# Altium schematic symbol library R E24 0603 Yageo RC Series.SchLib: 174 symbols (part 1 of 3)
Pins are listed as number, name and electrical type; pins without a type are passive.

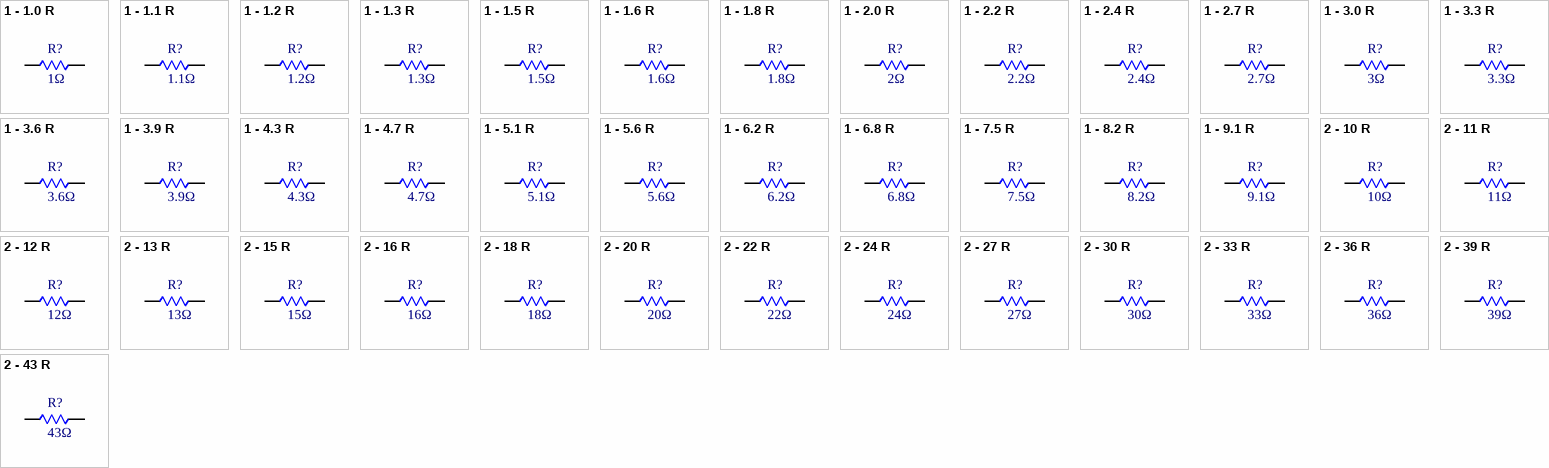
[diagram p0: symbols 1 - 1.0 R to 2 - 43 R]

## 1 - 1.0 R
designator R?, comment 1Ω
RES SMD 1 OHM 5% 1/10W 0603; MFG PN: RC0603JR-071RL; MFG: Yageo; Power: 0.1W; Temp Coeff: ±200ppm/°C; Op Temp: -55°C ~ 155°C; Current (max): 316 mA; Voltage (max): 316 mV; Resistance: 1 Ohms; Digi-Key PN: 311-1.0GRCT-ND; Height: 0.55mm; Package: 0603; Composition: Thick Film; Tolerance: 5%; Series: RC; Mounting Type: Surface Mount; ComponentLink2Description: Datasheet; ComponentLink2URL: https://www.yageo.com/upload/media/product/productsearch/datasheet/rchip/PYu-RC_Group_51_RoHS_L_11.pdf
footprint 0603 - R (from Yageo)
pins: 1, 2

## 1 - 1.1 R
designator R?, comment 1.1Ω
RES SMD 1.1 OHM 5% 1/10W 0603; MFG PN: RC0603JR-071R1L; MFG: Yageo; Power: 0.1W; Temp Coeff: ±100ppm/°C; Op Temp: -55°C ~ 155°C; Current (max): 302 mA; Voltage (max): 332 mV; Resistance: 1.1 Ohms; Digi-Key PN: 311-1.1GRCT-ND; Height: 0.55mm; Package: 0603; Composition: Thick Film; Tolerance: 5%; Series: RC; Mounting Type: Surface Mount; ComponentLink2Description: Datasheet; ComponentLink2URL: https://www.yageo.com/upload/media/product/productsearch/datasheet/rchip/PYu-RC_Group_51_RoHS_L_11.pdf
footprint 0603 - R (from Yageo)
pins: 1, 2

## 1 - 1.2 R
designator R?, comment 1.2Ω
RES SMD 1.2 OHM 5% 1/10W 0603; MFG PN: RC0603JR-071R2L; MFG: Yageo; Power: 0.1W; Temp Coeff: ±100ppm/°C; Op Temp: -55°C ~ 155°C; Current (max): 289 mA; Voltage (max): 346 mV; Resistance: 1.2 Ohms; Digi-Key PN: 311-1.2GRCT-ND; Height: 0.55mm; Package: 0603; Composition: Thick Film; Tolerance: 5%; Series: RC; Mounting Type: Surface Mount; ComponentLink2Description: Datasheet; ComponentLink2URL: https://www.yageo.com/upload/media/product/productsearch/datasheet/rchip/PYu-RC_Group_51_RoHS_L_11.pdf
footprint 0603 - R (from Yageo)
pins: 1, 2

## 1 - 1.3 R
designator R?, comment 1.3Ω
RES SMD 1.3 OHM 5% 1/10W 0603; MFG PN: RC0603JR-071R3L; MFG: Yageo; Power: 0.1W; Temp Coeff: ±100ppm/°C; Op Temp: -55°C ~ 155°C; Current (max): 277 mA; Voltage (max): 361 mV; Resistance: 1.3 Ohms; Digi-Key PN: 311-1.3GRCT-ND; Height: 0.55mm; Package: 0603; Composition: Thick Film; Tolerance: 5%; Series: RC; Mounting Type: Surface Mount; ComponentLink2Description: Datasheet; ComponentLink2URL: https://www.yageo.com/upload/media/product/productsearch/datasheet/rchip/PYu-RC_Group_51_RoHS_L_11.pdf
footprint 0603 - R (from Yageo)
pins: 1, 2

## 1 - 1.5 R
designator R?, comment 1.5Ω
RES SMD 1.5 OHM 5% 1/10W 0603; MFG PN: RC0603JR-071R5L; MFG: Yageo; Power: 0.1W; Temp Coeff: ±100ppm/°C; Op Temp: -55°C ~ 155°C; Current (max): 258 mA; Voltage (max): 387 mV; Resistance: 1.5 Ohms; Digi-Key PN: 311-1.5GRCT-ND; Height: 0.55mm; Package: 0603; Composition: Thick Film; Tolerance: 5%; Series: RC; Mounting Type: Surface Mount; ComponentLink2Description: Datasheet; ComponentLink2URL: https://www.yageo.com/upload/media/product/productsearch/datasheet/rchip/PYu-RC_Group_51_RoHS_L_11.pdf
footprint 0603 - R (from Yageo)
pins: 1, 2

## 1 - 1.6 R
designator R?, comment 1.6Ω
RES SMD 1.6 OHM 5% 1/10W 0603; MFG PN: RC0603JR-071R6L; MFG: Yageo; Power: 0.1W; Temp Coeff: ±100ppm/°C; Op Temp: -55°C ~ 155°C; Current (max): 250 mA; Voltage (max): 400 mV; Resistance: 1.6 Ohms; Digi-Key PN: 311-1.6GRCT-ND; Height: 0.55mm; Package: 0603; Composition: Thick Film; Tolerance: 5%; Series: RC; Mounting Type: Surface Mount; ComponentLink2Description: Datasheet; ComponentLink2URL: https://www.yageo.com/upload/media/product/productsearch/datasheet/rchip/PYu-RC_Group_51_RoHS_L_11.pdf
footprint 0603 - R (from Yageo)
pins: 1, 2

## 1 - 1.8 R
designator R?, comment 1.8Ω
RES SMD 1.8 OHM 5% 1/10W 0603; MFG PN: RC0603JR-071R8L; MFG: Yageo; Power: 0.1W; Temp Coeff: ±100ppm/°C; Op Temp: -55°C ~ 155°C; Current (max): 236 mA; Voltage (max): 424 mV; Resistance: 1.8 Ohms; Digi-Key PN: 311-1.8GRCT-ND; Height: 0.55mm; Package: 0603; Composition: Thick Film; Tolerance: 5%; Series: RC; Mounting Type: Surface Mount; ComponentLink2Description: Datasheet; ComponentLink2URL: https://www.yageo.com/upload/media/product/productsearch/datasheet/rchip/PYu-RC_Group_51_RoHS_L_11.pdf
footprint 0603 - R (from Yageo)
pins: 1, 2

## 1 - 2.0 R
designator R?, comment 2Ω
RES SMD 2 OHM 5% 1/10W 0603; MFG PN: RC0603JR-072RL; MFG: Yageo; Power: 0.1W; Temp Coeff: ±100ppm/°C; Op Temp: -55°C ~ 155°C; Current (max): 224 mA; Voltage (max): 447 mV; Resistance: 2 Ohms; Digi-Key PN: 13-RC0603JR-072RLCT-ND; Height: 0.55mm; Package: 0603; Composition: Thick Film; Tolerance: 5%; Series: RC; Mounting Type: Surface Mount; ComponentLink2Description: Datasheet; ComponentLink2URL: https://www.yageo.com/upload/media/product/productsearch/datasheet/rchip/PYu-RC_Group_51_RoHS_L_11.pdf
footprint 0603 - R (from Yageo)
pins: 1, 2

## 1 - 2.2 R
designator R?, comment 2.2Ω
RES SMD 2.2 OHM 5% 1/10W 0603; MFG PN: RC0603JR-072R2L; MFG: Yageo; Power: 0.1W; Temp Coeff: ±100ppm/°C; Op Temp: -55°C ~ 155°C; Current (max): 213 mA; Voltage (max): 469 mV; Resistance: 2.2 Ohms; Digi-Key PN: 311-2.2GRCT-ND; Height: 0.55mm; Package: 0603; Composition: Thick Film; Tolerance: 5%; Series: RC; Mounting Type: Surface Mount; ComponentLink2Description: Datasheet; ComponentLink2URL: https://www.yageo.com/upload/media/product/productsearch/datasheet/rchip/PYu-RC_Group_51_RoHS_L_11.pdf
footprint 0603 - R (from Yageo)
pins: 1, 2

## 1 - 2.4 R
designator R?, comment 2.4Ω
RES SMD 2.4 OHM 5% 1/10W 0603; MFG PN: RC0603JR-072R4L; MFG: Yageo; Power: 0.1W; Temp Coeff: ±200ppm/°C; Op Temp: -55°C ~ 155°C; Current (max): 204 mA; Voltage (max): 490 mV; Resistance: 2.4 Ohms; Digi-Key PN: 311-2.4GRCT-ND; Height: 0.55mm; Package: 0603; Composition: Thick Film; Tolerance: 5%; Series: RC; Mounting Type: Surface Mount; ComponentLink2Description: Datasheet; ComponentLink2URL: https://www.yageo.com/upload/media/product/productsearch/datasheet/rchip/PYu-RC_Group_51_RoHS_L_11.pdf
footprint 0603 - R (from Yageo)
pins: 1, 2

## 1 - 2.7 R
designator R?, comment 2.7Ω
RES SMD 2.7 OHM 5% 1/10W 0603; MFG PN: RC0603JR-072R7L; MFG: Yageo; Power: 0.1W; Temp Coeff: ±200ppm/°C; Op Temp: -55°C ~ 155°C; Current (max): 192 mA; Voltage (max): 520 mV; Resistance: 2.7 Ohms; Digi-Key PN: 311-2.7GRCT-ND; Height: 0.55mm; Package: 0603; Composition: Thick Film; Tolerance: 5%; Series: RC; Mounting Type: Surface Mount; ComponentLink2Description: Datasheet; ComponentLink2URL: https://www.yageo.com/upload/media/product/productsearch/datasheet/rchip/PYu-RC_Group_51_RoHS_L_11.pdf
footprint 0603 - R (from Yageo)
pins: 1, 2

## 1 - 3.0 R
designator R?, comment 3Ω
RES SMD 3 OHM 5% 1/10W 0603; MFG PN: RC0603JR-073RL; MFG: Yageo; Power: 0.1W; Temp Coeff: ±200ppm/°C; Op Temp: -55°C ~ 155°C; Current (max): 183 mA; Voltage (max): 548 mV; Resistance: 3 Ohms; Digi-Key PN: 311-3.0GRCT-ND; Height: 0.55mm; Package: 0603; Composition: Thick Film; Tolerance: 5%; Series: RC; Mounting Type: Surface Mount; ComponentLink2Description: Datasheet; ComponentLink2URL: https://www.yageo.com/upload/media/product/productsearch/datasheet/rchip/PYu-RC_Group_51_RoHS_L_11.pdf
footprint 0603 - R (from Yageo)
pins: 1, 2

## 1 - 3.3 R
designator R?, comment 3.3Ω
RES SMD 3.3 OHM 5% 1/10W 0603; MFG PN: RC0603JR-073R3L; MFG: Yageo; Power: 0.1W; Temp Coeff: ±100ppm/°C; Op Temp: -55°C ~ 155°C; Current (max): 174 mA; Voltage (max): 574 mV; Resistance: 3.3 Ohms; Digi-Key PN: 311-3.3GRCT-ND; Height: 0.55mm; Package: 0603; Composition: Thick Film; Tolerance: 5%; Series: RC; Mounting Type: Surface Mount; ComponentLink2Description: Datasheet; ComponentLink2URL: https://www.yageo.com/upload/media/product/productsearch/datasheet/rchip/PYu-RC_Group_51_RoHS_L_11.pdf
footprint 0603 - R (from Yageo)
pins: 1, 2

## 1 - 3.6 R
designator R?, comment 3.6Ω
RES SMD 3.6 OHM 5% 1/10W 0603; MFG PN: RC0603JR-073R6L; MFG: Yageo; Power: 0.1W; Temp Coeff: ±100ppm/°C; Op Temp: -55°C ~ 155°C; Current (max): 167 mA; Voltage (max): 600 mV; Resistance: 3.6 Ohms; Digi-Key PN: 311-3.6GRCT-ND; Height: 0.55mm; Package: 0603; Composition: Thick Film; Tolerance: 5%; Series: RC; Mounting Type: Surface Mount; ComponentLink2Description: Datasheet; ComponentLink2URL: https://www.yageo.com/upload/media/product/productsearch/datasheet/rchip/PYu-RC_Group_51_RoHS_L_11.pdf
footprint 0603 - R (from Yageo)
pins: 1, 2

## 1 - 3.9 R
designator R?, comment 3.9Ω
RES SMD 3.9 OHM 5% 1/10W 0603; MFG PN: RC0603JR-073R9L; MFG: Yageo; Power: 0.1W; Temp Coeff: ±100ppm/°C; Op Temp: -55°C ~ 155°C; Current (max): 160 mA; Voltage (max): 624 mV; Resistance: 3.9 Ohms; Digi-Key PN: 311-3.9GRCT-ND; Height: 0.55mm; Package: 0603; Composition: Thick Film; Tolerance: 5%; Series: RC; Mounting Type: Surface Mount; ComponentLink2Description: Datasheet; ComponentLink2URL: https://www.yageo.com/upload/media/product/productsearch/datasheet/rchip/PYu-RC_Group_51_RoHS_L_11.pdf
footprint 0603 - R (from Yageo)
pins: 1, 2

## 1 - 4.3 R
designator R?, comment 4.3Ω
RES SMD 4.3 OHM 5% 1/10W 0603; MFG PN: RC0603JR-074R3L; MFG: Yageo; Power: 0.1W; Temp Coeff: ±100ppm/°C; Op Temp: -55°C ~ 155°C; Current (max): 152 mA; Voltage (max): 656 mV; Resistance: 4.3 Ohms; Digi-Key PN: 311-4.3GRCT-ND; Height: 0.55mm; Package: 0603; Composition: Thick Film; Tolerance: 5%; Series: RC; Mounting Type: Surface Mount; ComponentLink2Description: Datasheet; ComponentLink2URL: https://www.yageo.com/upload/media/product/productsearch/datasheet/rchip/PYu-RC_Group_51_RoHS_L_11.pdf
footprint 0603 - R (from Yageo)
pins: 1, 2

## 1 - 4.7 R
designator R?, comment 4.7Ω
RES SMD 4.7 OHM 5% 1/10W 0603; MFG PN: RC0603JR-074R7L; MFG: Yageo; Power: 0.1W; Temp Coeff: ±100ppm/°C; Op Temp: -55°C ~ 155°C; Current (max): 146 mA; Voltage (max): 686 mV; Resistance: 4.7 Ohms; Digi-Key PN: 311-4.7GRCT-ND; Height: 0.55mm; Package: 0603; Composition: Thick Film; Tolerance: 5%; Series: RC; Mounting Type: Surface Mount; ComponentLink2Description: Datasheet; ComponentLink2URL: https://www.yageo.com/upload/media/product/productsearch/datasheet/rchip/PYu-RC_Group_51_RoHS_L_11.pdf
footprint 0603 - R (from Yageo)
pins: 1, 2

## 1 - 5.1 R
designator R?, comment 5.1Ω
RES SMD 5.1 OHM 5% 1/10W 0603; MFG PN: RC0603JR-075R1L; MFG: Yageo; Power: 0.1W; Temp Coeff: ±100ppm/°C; Op Temp: -55°C ~ 155°C; Current (max): 140 mA; Voltage (max): 714 mV; Resistance: 5.1 Ohms; Digi-Key PN: 311-5.1GRCT-ND; Height: 0.55mm; Package: 0603; Composition: Thick Film; Tolerance: 5%; Series: RC; Mounting Type: Surface Mount; ComponentLink2Description: Datasheet; ComponentLink2URL: https://www.yageo.com/upload/media/product/productsearch/datasheet/rchip/PYu-RC_Group_51_RoHS_L_11.pdf
footprint 0603 - R (from Yageo)
pins: 1, 2

## 1 - 5.6 R
designator R?, comment 5.6Ω
RES SMD 5.6 OHM 5% 1/10W 0603; MFG PN: RC0603JR-075R6L; MFG: Yageo; Power: 0.1W; Temp Coeff: ±100ppm/°C; Op Temp: -55°C ~ 155°C; Current (max): 134 mA; Voltage (max): 748 mV; Resistance: 5.6 Ohms; Digi-Key PN: 311-5.6GRCT-ND; Height: 0.55mm; Package: 0603; Composition: Thick Film; Tolerance: 5%; Series: RC; Mounting Type: Surface Mount; ComponentLink2Description: Datasheet; ComponentLink2URL: https://www.yageo.com/upload/media/product/productsearch/datasheet/rchip/PYu-RC_Group_51_RoHS_L_11.pdf
footprint 0603 - R (from Yageo)
pins: 1, 2

## 1 - 6.2 R
designator R?, comment 6.2Ω
RES SMD 6.2 OHM 5% 1/10W 0603; MFG PN: RC0603JR-076R2L; MFG: Yageo; Power: 0.1W; Temp Coeff: ±100ppm/°C; Op Temp: -55°C ~ 155°C; Current (max): 127 mA; Voltage (max): 787 mV; Resistance: 6.2 Ohms; Digi-Key PN: 311-6.2GRCT-ND; Height: 0.55mm; Package: 0603; Composition: Thick Film; Tolerance: 5%; Series: RC; Mounting Type: Surface Mount; ComponentLink2Description: Datasheet; ComponentLink2URL: https://www.yageo.com/upload/media/product/productsearch/datasheet/rchip/PYu-RC_Group_51_RoHS_L_11.pdf
footprint 0603 - R (from Yageo)
pins: 1, 2

## 1 - 6.8 R
designator R?, comment 6.8Ω
RES SMD 6.8 OHM 5% 1/10W 0603; MFG PN: RC0603JR-076R8L; MFG: Yageo; Power: 0.1W; Temp Coeff: ±100ppm/°C; Op Temp: -55°C ~ 155°C; Current (max): 121 mA; Voltage (max): 825 mV; Resistance: 6.8 Ohms; Digi-Key PN: 311-6.8GRCT-ND; Height: 0.55mm; Package: 0603; Composition: Thick Film; Tolerance: 5%; Series: RC; Mounting Type: Surface Mount; ComponentLink2Description: Datasheet; ComponentLink2URL: https://www.yageo.com/upload/media/product/productsearch/datasheet/rchip/PYu-RC_Group_51_RoHS_L_11.pdf
footprint 0603 - R (from Yageo)
pins: 1, 2

## 1 - 7.5 R
designator R?, comment 7.5Ω
RES SMD 7.5 OHM 5% 1/10W 0603; MFG PN: RC0603JR-077R5L; MFG: Yageo; Power: 0.1W; Temp Coeff: ±100ppm/°C; Op Temp: -55°C ~ 155°C; Current (max): 115 mA; Voltage (max): 866 mV; Resistance: 7.5 Ohms; Digi-Key PN: 311-7.5GRCT-ND; Height: 0.55mm; Package: 0603; Composition: Thick Film; Tolerance: 5%; Series: RC; Mounting Type: Surface Mount; ComponentLink2Description: Datasheet; ComponentLink2URL: https://www.yageo.com/upload/media/product/productsearch/datasheet/rchip/PYu-RC_Group_51_RoHS_L_11.pdf
footprint 0603 - R (from Yageo)
pins: 1, 2

## 1 - 8.2 R
designator R?, comment 8.2Ω
RES SMD 8.2 OHM 5% 1/10W 0603; MFG PN: RC0603JR-078R2L; MFG: Yageo; Power: 0.1W; Temp Coeff: ±100ppm/°C; Op Temp: -55°C ~ 155°C; Current (max): 110 mA; Voltage (max): 906 mV; Resistance: 8.2 Ohms; Digi-Key PN: 311-8.2GRCT-ND; Height: 0.55mm; Package: 0603; Composition: Thick Film; Tolerance: 5%; Series: RC; Mounting Type: Surface Mount; ComponentLink2Description: Datasheet; ComponentLink2URL: https://www.yageo.com/upload/media/product/productsearch/datasheet/rchip/PYu-RC_Group_51_RoHS_L_11.pdf
footprint 0603 - R (from Yageo)
pins: 1, 2

## 1 - 9.1 R
designator R?, comment 9.1Ω
RES SMD 9.1 OHM 5% 1/10W 0603; MFG PN: RC0603JR-079R1L; MFG: Yageo; Power: 0.1W; Temp Coeff: ±100ppm/°C; Op Temp: -55°C ~ 155°C; Current (max): 105 mA; Voltage (max): 954 mV; Resistance: 9.1 Ohms; Digi-Key PN: 311-9.1GRCT-ND; Height: 0.55mm; Package: 0603; Composition: Thick Film; Tolerance: 5%; Series: RC; Mounting Type: Surface Mount; ComponentLink2Description: Datasheet; ComponentLink2URL: https://www.yageo.com/upload/media/product/productsearch/datasheet/rchip/PYu-RC_Group_51_RoHS_L_11.pdf
footprint 0603 - R (from Yageo)
pins: 1, 2

## 2 - 10 R
designator R?, comment 10Ω
RES SMD 10 OHM 5% 1/10W 0603; MFG PN: RC0603JR-0710RL; MFG: Yageo; Power: 0.1W; Temp Coeff: ±100ppm/°C; Op Temp: -55°C ~ 155°C; Current (max): 100 mA; Voltage (max): 1.00 V; Resistance: 10 Ohms; Digi-Key PN: 311-10GRCT-ND; Height: 0.55mm; Package: 0603; Composition: Thick Film; Tolerance: 5%; Series: RC; Mounting Type: Surface Mount; ComponentLink2Description: Datasheet; ComponentLink2URL: https://www.yageo.com/upload/media/product/productsearch/datasheet/rchip/PYu-RC_Group_51_RoHS_L_11.pdf
footprint 0603 - R (from Yageo)
pins: 1, 2

## 2 - 11 R
designator R?, comment 11Ω
RES SMD 11 OHM 5% 1/10W 0603; MFG PN: RC0603JR-0711RL; MFG: Yageo; Power: 0.1W; Temp Coeff: ±100ppm/°C; Op Temp: -55°C ~ 155°C; Current (max): 95.3 mA; Voltage (max): 1.05 V; Resistance: 11 Ohms; Digi-Key PN: 311-11GRCT-ND; Height: 0.55mm; Package: 0603; Composition: Thick Film; Tolerance: 5%; Series: RC; Mounting Type: Surface Mount; ComponentLink2Description: Datasheet; ComponentLink2URL: https://www.yageo.com/upload/media/product/productsearch/datasheet/rchip/PYu-RC_Group_51_RoHS_L_11.pdf
footprint 0603 - R (from Yageo)
pins: 1, 2

## 2 - 12 R
designator R?, comment 12Ω
RES SMD 12 OHM 5% 1/10W 0603; MFG PN: RC0603JR-0712RL; MFG: Yageo; Power: 0.1W; Temp Coeff: ±100ppm/°C; Op Temp: -55°C ~ 155°C; Current (max): 91.3 mA; Voltage (max): 1.10 V; Resistance: 12 Ohms; Digi-Key PN: 311-12GRCT-ND; Height: 0.55mm; Package: 0603; Composition: Thick Film; Tolerance: 5%; Series: RC; Mounting Type: Surface Mount; ComponentLink2Description: Datasheet; ComponentLink2URL: https://www.yageo.com/upload/media/product/productsearch/datasheet/rchip/PYu-RC_Group_51_RoHS_L_11.pdf
footprint 0603 - R (from Yageo)
pins: 1, 2

## 2 - 13 R
designator R?, comment 13Ω
RES SMD 13 OHM 5% 1/10W 0603; MFG PN: RC0603JR-0713RL; MFG: Yageo; Power: 0.1W; Temp Coeff: ±100ppm/°C; Op Temp: -55°C ~ 155°C; Current (max): 87.7 mA; Voltage (max): 1.14 V; Resistance: 13 Ohms; Digi-Key PN: 311-13GRCT-ND; Height: 0.55mm; Package: 0603; Composition: Thick Film; Tolerance: 5%; Series: RC; Mounting Type: Surface Mount; ComponentLink2Description: Datasheet; ComponentLink2URL: https://www.yageo.com/upload/media/product/productsearch/datasheet/rchip/PYu-RC_Group_51_RoHS_L_11.pdf
footprint 0603 - R (from Yageo)
pins: 1, 2

## 2 - 15 R
designator R?, comment 15Ω
RES SMD 15 OHM 5% 1/10W 0603; MFG PN: RC0603JR-0715RL; MFG: Yageo; Power: 0.1W; Temp Coeff: ±100ppm/°C; Op Temp: -55°C ~ 155°C; Current (max): 81.6 mA; Voltage (max): 1.22 V; Resistance: 15 Ohms; Digi-Key PN: 311-15GRCT-ND; Height: 0.55mm; Package: 0603; Composition: Thick Film; Tolerance: 5%; Series: RC; Mounting Type: Surface Mount; ComponentLink2Description: Datasheet; ComponentLink2URL: https://www.yageo.com/upload/media/product/productsearch/datasheet/rchip/PYu-RC_Group_51_RoHS_L_11.pdf
footprint 0603 - R (from Yageo)
pins: 1, 2

## 2 - 16 R
designator R?, comment 16Ω
RES SMD 16 OHM 5% 1/10W 0603; MFG PN: RC0603JR-0716RL; MFG: Yageo; Power: 0.1W; Temp Coeff: ±100ppm/°C; Op Temp: -55°C ~ 155°C; Current (max): 79.1 mA; Voltage (max): 1.26 V; Resistance: 16 Ohms; Digi-Key PN: 311-16GRCT-ND; Height: 0.55mm; Package: 0603; Composition: Thick Film; Tolerance: 5%; Series: RC; Mounting Type: Surface Mount; ComponentLink2Description: Datasheet; ComponentLink2URL: https://www.yageo.com/upload/media/product/productsearch/datasheet/rchip/PYu-RC_Group_51_RoHS_L_11.pdf
footprint 0603 - R (from Yageo)
pins: 1, 2

## 2 - 18 R
designator R?, comment 18Ω
RES SMD 18 OHM 5% 1/10W 0603; MFG PN: RC0603JR-0718RL; MFG: Yageo; Power: 0.1W; Temp Coeff: ±100ppm/°C; Op Temp: -55°C ~ 155°C; Current (max): 74.5 mA; Voltage (max): 1.34 V; Resistance: 18 Ohms; Digi-Key PN: 311-18GRCT-ND; Height: 0.55mm; Package: 0603; Composition: Thick Film; Tolerance: 5%; Series: RC; Mounting Type: Surface Mount; ComponentLink2Description: Datasheet; ComponentLink2URL: https://www.yageo.com/upload/media/product/productsearch/datasheet/rchip/PYu-RC_Group_51_RoHS_L_11.pdf
footprint 0603 - R (from Yageo)
pins: 1, 2

## 2 - 20 R
designator R?, comment 20Ω
RES SMD 20 OHM 5% 1/10W 0603; MFG PN: RC0603JR-0720RL; MFG: Yageo; Power: 0.1W; Temp Coeff: ±100ppm/°C; Op Temp: -55°C ~ 155°C; Current (max): 70.7 mA; Voltage (max): 1.41 V; Resistance: 20 Ohms; Digi-Key PN: 311-20GRCT-ND; Height: 0.55mm; Package: 0603; Composition: Thick Film; Tolerance: 5%; Series: RC; Mounting Type: Surface Mount; ComponentLink2Description: Datasheet; ComponentLink2URL: https://www.yageo.com/upload/media/product/productsearch/datasheet/rchip/PYu-RC_Group_51_RoHS_L_11.pdf
footprint 0603 - R (from Yageo)
pins: 1, 2

## 2 - 22 R
designator R?, comment 22Ω
RES SMD 22 OHM 5% 1/10W 0603; MFG PN: RC0603JR-0722RL; MFG: Yageo; Power: 0.1W; Temp Coeff: ±100ppm/°C; Op Temp: -55°C ~ 155°C; Current (max): 67.4 mA; Voltage (max): 1.48 V; Resistance: 22 Ohms; Digi-Key PN: 311-22GRCT-ND; Height: 0.55mm; Package: 0603; Composition: Thick Film; Tolerance: 5%; Series: RC; Mounting Type: Surface Mount; ComponentLink2Description: Datasheet; ComponentLink2URL: https://www.yageo.com/upload/media/product/productsearch/datasheet/rchip/PYu-RC_Group_51_RoHS_L_11.pdf
footprint 0603 - R (from Yageo)
pins: 1, 2

## 2 - 24 R
designator R?, comment 24Ω
RES SMD 24 OHM 5% 1/10W 0603; MFG PN: RC0603JR-0724RL; MFG: Yageo; Power: 0.1W; Temp Coeff: ±100ppm/°C; Op Temp: -55°C ~ 155°C; Current (max): 64.5 mA; Voltage (max): 1.55 V; Resistance: 24 Ohms; Digi-Key PN: 311-24GRCT-ND; Height: 0.55mm; Package: 0603; Composition: Thick Film; Tolerance: 5%; Series: RC; Mounting Type: Surface Mount; ComponentLink2Description: Datasheet; ComponentLink2URL: https://www.yageo.com/upload/media/product/productsearch/datasheet/rchip/PYu-RC_Group_51_RoHS_L_11.pdf
footprint 0603 - R (from Yageo)
pins: 1, 2

## 2 - 27 R
designator R?, comment 27Ω
RES SMD 27 OHM 5% 1/10W 0603; MFG PN: RC0603JR-0727RL; MFG: Yageo; Power: 0.1W; Temp Coeff: ±100ppm/°C; Op Temp: -55°C ~ 155°C; Current (max): 60.9 mA; Voltage (max): 1.64 V; Resistance: 27 Ohms; Digi-Key PN: 311-27GRCT-ND; Height: 0.55mm; Package: 0603; Composition: Thick Film; Tolerance: 5%; Series: RC; Mounting Type: Surface Mount; ComponentLink2Description: Datasheet; ComponentLink2URL: https://www.yageo.com/upload/media/product/productsearch/datasheet/rchip/PYu-RC_Group_51_RoHS_L_11.pdf
footprint 0603 - R (from Yageo)
pins: 1, 2

## 2 - 30 R
designator R?, comment 30Ω
RES SMD 30 OHM 5% 1/10W 0603; MFG PN: RC0603JR-0730RL; MFG: Yageo; Power: 0.1W; Temp Coeff: ±100ppm/°C; Op Temp: -55°C ~ 155°C; Current (max): 57.7 mA; Voltage (max): 1.73 V; Resistance: 30 Ohms; Digi-Key PN: 311-30GRCT-ND; Height: 0.55mm; Package: 0603; Composition: Thick Film; Tolerance: 5%; Series: RC; Mounting Type: Surface Mount; ComponentLink2Description: Datasheet; ComponentLink2URL: https://www.yageo.com/upload/media/product/productsearch/datasheet/rchip/PYu-RC_Group_51_RoHS_L_11.pdf
footprint 0603 - R (from Yageo)
pins: 1, 2

## 2 - 33 R
designator R?, comment 33Ω
RES SMD 33 OHM 5% 1/10W 0603; MFG PN: RC0603JR-0733RL; MFG: Yageo; Power: 0.1W; Temp Coeff: ±100ppm/°C; Op Temp: -55°C ~ 155°C; Current (max): 55.0 mA; Voltage (max): 1.82 V; Resistance: 33 Ohms; Digi-Key PN: 311-33GRCT-ND; Height: 0.55mm; Package: 0603; Composition: Thick Film; Tolerance: 5%; Series: RC; Mounting Type: Surface Mount; ComponentLink2Description: Datasheet; ComponentLink2URL: https://www.yageo.com/upload/media/product/productsearch/datasheet/rchip/PYu-RC_Group_51_RoHS_L_11.pdf
footprint 0603 - R (from Yageo)
pins: 1, 2

## 2 - 36 R
designator R?, comment 36Ω
RES SMD 36 OHM 5% 1/10W 0603; MFG PN: RC0603JR-0736RL; MFG: Yageo; Power: 0.1W; Temp Coeff: ±100ppm/°C; Op Temp: -55°C ~ 155°C; Current (max): 52.7 mA; Voltage (max): 1.90 V; Resistance: 36 Ohms; Digi-Key PN: 311-36GRCT-ND; Height: 0.55mm; Package: 0603; Composition: Thick Film; Tolerance: 5%; Series: RC; Mounting Type: Surface Mount; ComponentLink2Description: Datasheet; ComponentLink2URL: https://www.yageo.com/upload/media/product/productsearch/datasheet/rchip/PYu-RC_Group_51_RoHS_L_11.pdf
footprint 0603 - R (from Yageo)
pins: 1, 2

## 2 - 39 R
designator R?, comment 39Ω
RES SMD 39 OHM 5% 1/10W 0603; MFG PN: RC0603JR-0739RL; MFG: Yageo; Power: 0.1W; Temp Coeff: ±100ppm/°C; Op Temp: -55°C ~ 155°C; Current (max): 50.6 mA; Voltage (max): 1.97 V; Resistance: 39 Ohms; Digi-Key PN: 311-39GRCT-ND; Height: 0.55mm; Package: 0603; Composition: Thick Film; Tolerance: 5%; Series: RC; Mounting Type: Surface Mount; ComponentLink2Description: Datasheet; ComponentLink2URL: https://www.yageo.com/upload/media/product/productsearch/datasheet/rchip/PYu-RC_Group_51_RoHS_L_11.pdf
footprint 0603 - R (from Yageo)
pins: 1, 2

## 2 - 43 R
designator R?, comment 43Ω
RES SMD 43 OHM 5% 1/10W 0603; MFG PN: RC0603JR-0743RL; MFG: Yageo; Power: 0.1W; Temp Coeff: ±100ppm/°C; Op Temp: -55°C ~ 155°C; Current (max): 48.2 mA; Voltage (max): 2.07 V; Resistance: 43 Ohms; Digi-Key PN: 311-43GRCT-ND; Height: 0.55mm; Package: 0603; Composition: Thick Film; Tolerance: 5%; Series: RC; Mounting Type: Surface Mount; ComponentLink2Description: Datasheet; ComponentLink2URL: https://www.yageo.com/upload/media/product/productsearch/datasheet/rchip/PYu-RC_Group_51_RoHS_L_11.pdf
footprint 0603 - R (from Yageo)
pins: 1, 2

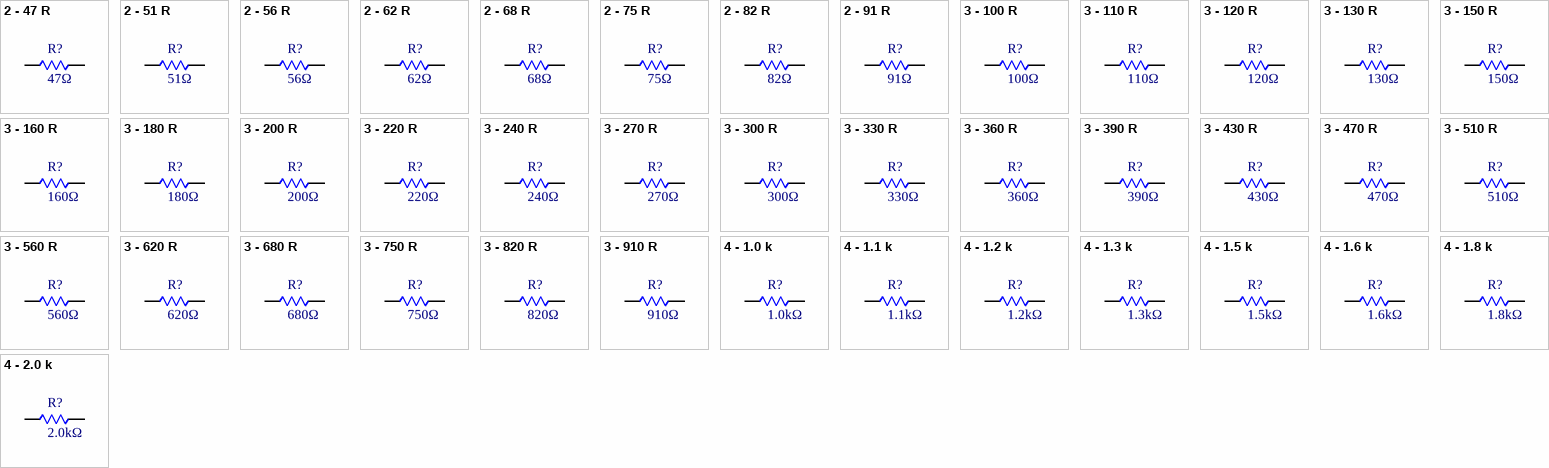
[diagram p1: symbols 2 - 47 R to 4 - 2.0 k]

## 2 - 47 R
designator R?, comment 47Ω
RES SMD 47 OHM 5% 1/10W 0603; MFG PN: RC0603JR-0747RL; MFG: Yageo; Power: 0.1W; Temp Coeff: ±100ppm/°C; Op Temp: -55°C ~ 155°C; Current (max): 46.1 mA; Voltage (max): 2.17 V; Resistance: 47 Ohms; Digi-Key PN: 311-47GRCT-ND; Height: 0.55mm; Package: 0603; Composition: Thick Film; Tolerance: 5%; Series: RC; Mounting Type: Surface Mount; ComponentLink2Description: Datasheet; ComponentLink2URL: https://www.yageo.com/upload/media/product/productsearch/datasheet/rchip/PYu-RC_Group_51_RoHS_L_11.pdf
footprint 0603 - R (from Yageo)
pins: 1, 2

## 2 - 51 R
designator R?, comment 51Ω
RES SMD 51 OHM 5% 1/10W 0603; MFG PN: RC0603JR-0751RL; MFG: Yageo; Power: 0.1W; Temp Coeff: ±100ppm/°C; Op Temp: -55°C ~ 155°C; Current (max): 44.3 mA; Voltage (max): 2.26 V; Resistance: 51 Ohms; Digi-Key PN: 311-51GRCT-ND; Height: 0.55mm; Package: 0603; Composition: Thick Film; Tolerance: 5%; Series: RC; Mounting Type: Surface Mount; ComponentLink2Description: Datasheet; ComponentLink2URL: https://www.yageo.com/upload/media/product/productsearch/datasheet/rchip/PYu-RC_Group_51_RoHS_L_11.pdf
footprint 0603 - R (from Yageo)
pins: 1, 2

## 2 - 56 R
designator R?, comment 56Ω
RES SMD 56 OHM 5% 1/10W 0603; MFG PN: RC0603JR-0756RL; MFG: Yageo; Power: 0.1W; Temp Coeff: ±100ppm/°C; Op Temp: -55°C ~ 155°C; Current (max): 42.3 mA; Voltage (max): 2.37 V; Resistance: 56 Ohms; Digi-Key PN: 311-56GRCT-ND; Height: 0.55mm; Package: 0603; Composition: Thick Film; Tolerance: 5%; Series: RC; Mounting Type: Surface Mount; ComponentLink2Description: Datasheet; ComponentLink2URL: https://www.yageo.com/upload/media/product/productsearch/datasheet/rchip/PYu-RC_Group_51_RoHS_L_11.pdf
footprint 0603 - R (from Yageo)
pins: 1, 2

## 2 - 62 R
designator R?, comment 62Ω
RES SMD 62 OHM 5% 1/10W 0603; MFG PN: RC0603JR-0762RL; MFG: Yageo; Power: 0.1W; Temp Coeff: ±100ppm/°C; Op Temp: -55°C ~ 155°C; Current (max): 40.2 mA; Voltage (max): 2.49 V; Resistance: 62 Ohms; Digi-Key PN: 311-62GRCT-ND; Height: 0.55mm; Package: 0603; Composition: Thick Film; Tolerance: 5%; Series: RC; Mounting Type: Surface Mount; ComponentLink2Description: Datasheet; ComponentLink2URL: https://www.yageo.com/upload/media/product/productsearch/datasheet/rchip/PYu-RC_Group_51_RoHS_L_11.pdf
footprint 0603 - R (from Yageo)
pins: 1, 2

## 2 - 68 R
designator R?, comment 68Ω
RES SMD 68 OHM 5% 1/10W 0603; MFG PN: RC0603JR-0768RL; MFG: Yageo; Power: 0.1W; Temp Coeff: ±100ppm/°C; Op Temp: -55°C ~ 155°C; Current (max): 38.3 mA; Voltage (max): 2.61 V; Resistance: 68 Ohms; Digi-Key PN: 311-68GRCT-ND; Height: 0.55mm; Package: 0603; Composition: Thick Film; Tolerance: 5%; Series: RC; Mounting Type: Surface Mount; ComponentLink2Description: Datasheet; ComponentLink2URL: https://www.yageo.com/upload/media/product/productsearch/datasheet/rchip/PYu-RC_Group_51_RoHS_L_11.pdf
footprint 0603 - R (from Yageo)
pins: 1, 2

## 2 - 75 R
designator R?, comment 75Ω
RES SMD 75 OHM 5% 1/10W 0603; MFG PN: RC0603JR-0775RL; MFG: Yageo; Power: 0.1W; Temp Coeff: ±100ppm/°C; Op Temp: -55°C ~ 155°C; Current (max): 36.5 mA; Voltage (max): 2.74 V; Resistance: 75 Ohms; Digi-Key PN: 311-75GRCT-ND; Height: 0.55mm; Package: 0603; Composition: Thick Film; Tolerance: 5%; Series: RC; Mounting Type: Surface Mount; ComponentLink2Description: Datasheet; ComponentLink2URL: https://www.yageo.com/upload/media/product/productsearch/datasheet/rchip/PYu-RC_Group_51_RoHS_L_11.pdf
footprint 0603 - R (from Yageo)
pins: 1, 2

## 2 - 82 R
designator R?, comment 82Ω
RES SMD 82 OHM 5% 1/10W 0603; MFG PN: RC0603JR-0782RL; MFG: Yageo; Power: 0.1W; Temp Coeff: ±100ppm/°C; Op Temp: -55°C ~ 155°C; Current (max): 34.9 mA; Voltage (max): 2.86 V; Resistance: 82 Ohms; Digi-Key PN: 311-82GRCT-ND; Height: 0.55mm; Package: 0603; Composition: Thick Film; Tolerance: 5%; Series: RC; Mounting Type: Surface Mount; ComponentLink2Description: Datasheet; ComponentLink2URL: https://www.yageo.com/upload/media/product/productsearch/datasheet/rchip/PYu-RC_Group_51_RoHS_L_11.pdf
footprint 0603 - R (from Yageo)
pins: 1, 2

## 2 - 91 R
designator R?, comment 91Ω
RES SMD 91 OHM 5% 1/10W 0603; MFG PN: RC0603JR-0791RL; MFG: Yageo; Power: 0.1W; Temp Coeff: ±100ppm/°C; Op Temp: -55°C ~ 155°C; Current (max): 33.1 mA; Voltage (max): 3.02 V; Resistance: 91 Ohms; Digi-Key PN: 311-91GRCT-ND; Height: 0.55mm; Package: 0603; Composition: Thick Film; Tolerance: 5%; Series: RC; Mounting Type: Surface Mount; ComponentLink2Description: Datasheet; ComponentLink2URL: https://www.yageo.com/upload/media/product/productsearch/datasheet/rchip/PYu-RC_Group_51_RoHS_L_11.pdf
footprint 0603 - R (from Yageo)
pins: 1, 2

## 3 - 100 R
designator R?, comment 100Ω
RES SMD 100 OHM 5% 1/10W 0603; MFG PN: RC0603JR-07100RL; MFG: Yageo; Power: 0.1W; Temp Coeff: ±100ppm/°C; Op Temp: -55°C ~ 155°C; Current (max): 31.6 mA; Voltage (max): 3.16 V; Resistance: 100 Ohms; Digi-Key PN: 311-100GRCT-ND; Height: 0.55mm; Package: 0603; Composition: Thick Film; Tolerance: 5%; Series: RC; Mounting Type: Surface Mount; ComponentLink2Description: Datasheet; ComponentLink2URL: https://www.yageo.com/upload/media/product/productsearch/datasheet/rchip/PYu-RC_Group_51_RoHS_L_11.pdf
footprint 0603 - R (from Yageo)
pins: 1, 2

## 3 - 110 R
designator R?, comment 110Ω
RES SMD 110 OHM 5% 1/10W 0603; MFG PN: RC0603JR-07110RL; MFG: Yageo; Power: 0.1W; Temp Coeff: ±100ppm/°C; Op Temp: -55°C ~ 155°C; Current (max): 30.2 mA; Voltage (max): 3.32 V; Resistance: 110 Ohms; Digi-Key PN: 311-110GRCT-ND; Height: 0.55mm; Package: 0603; Composition: Thick Film; Tolerance: 5%; Series: RC; Mounting Type: Surface Mount; ComponentLink2Description: Datasheet; ComponentLink2URL: https://www.yageo.com/upload/media/product/productsearch/datasheet/rchip/PYu-RC_Group_51_RoHS_L_11.pdf
footprint 0603 - R (from Yageo)
pins: 1, 2

## 3 - 120 R
designator R?, comment 120Ω
RES SMD 120 OHM 5% 1/10W 0603; MFG PN: RC0603JR-07120RL; MFG: Yageo; Power: 0.1W; Temp Coeff: ±100ppm/°C; Op Temp: -55°C ~ 155°C; Current (max): 28.9 mA; Voltage (max): 3.46 V; Resistance: 120 Ohms; Digi-Key PN: 311-120GRCT-ND; Height: 0.55mm; Package: 0603; Composition: Thick Film; Tolerance: 5%; Series: RC; Mounting Type: Surface Mount; ComponentLink2Description: Datasheet; ComponentLink2URL: https://www.yageo.com/upload/media/product/productsearch/datasheet/rchip/PYu-RC_Group_51_RoHS_L_11.pdf
footprint 0603 - R (from Yageo)
pins: 1, 2

## 3 - 130 R
designator R?, comment 130Ω
RES SMD 130 OHM 5% 1/10W 0603; MFG PN: RC0603JR-07130RL; MFG: Yageo; Power: 0.1W; Temp Coeff: ±100ppm/°C; Op Temp: -55°C ~ 155°C; Current (max): 27.7 mA; Voltage (max): 3.61 V; Resistance: 130 Ohms; Digi-Key PN: 311-130GRCT-ND; Height: 0.55mm; Package: 0603; Composition: Thick Film; Tolerance: 5%; Series: RC; Mounting Type: Surface Mount; ComponentLink2Description: Datasheet; ComponentLink2URL: https://www.yageo.com/upload/media/product/productsearch/datasheet/rchip/PYu-RC_Group_51_RoHS_L_11.pdf
footprint 0603 - R (from Yageo)
pins: 1, 2

## 3 - 150 R
designator R?, comment 150Ω
RES SMD 150 OHM 5% 1/10W 0603; MFG PN: RC0603JR-07150RL; MFG: Yageo; Power: 0.1W; Temp Coeff: ±100ppm/°C; Op Temp: -55°C ~ 155°C; Current (max): 25.8 mA; Voltage (max): 3.87 V; Resistance: 150 Ohms; Digi-Key PN: 311-150GRCT-ND; Height: 0.55mm; Package: 0603; Composition: Thick Film; Tolerance: 5%; Series: RC; Mounting Type: Surface Mount; ComponentLink2Description: Datasheet; ComponentLink2URL: https://www.yageo.com/upload/media/product/productsearch/datasheet/rchip/PYu-RC_Group_51_RoHS_L_11.pdf
footprint 0603 - R (from Yageo)
pins: 1, 2

## 3 - 160 R
designator R?, comment 160Ω
RES SMD 160 OHM 5% 1/10W 0603; MFG PN: RC0603JR-07160RL; MFG: Yageo; Power: 0.1W; Temp Coeff: ±100ppm/°C; Op Temp: -55°C ~ 155°C; Current (max): 25.0 mA; Voltage (max): 4.00 V; Resistance: 160 Ohms; Digi-Key PN: 311-160GRCT-ND; Height: 0.55mm; Package: 0603; Composition: Thick Film; Tolerance: 5%; Series: RC; Mounting Type: Surface Mount; ComponentLink2Description: Datasheet; ComponentLink2URL: https://www.yageo.com/upload/media/product/productsearch/datasheet/rchip/PYu-RC_Group_51_RoHS_L_11.pdf
footprint 0603 - R (from Yageo)
pins: 1, 2

## 3 - 180 R
designator R?, comment 180Ω
RES SMD 180 OHM 5% 1/10W 0603; MFG PN: RC0603JR-07180RL; MFG: Yageo; Power: 0.1W; Temp Coeff: ±100ppm/°C; Op Temp: -55°C ~ 155°C; Current (max): 23.6 mA; Voltage (max): 4.24 V; Resistance: 180 Ohms; Digi-Key PN: 311-180GRCT-ND; Height: 0.55mm; Package: 0603; Composition: Thick Film; Tolerance: 5%; Series: RC; Mounting Type: Surface Mount; ComponentLink2Description: Datasheet; ComponentLink2URL: https://www.yageo.com/upload/media/product/productsearch/datasheet/rchip/PYu-RC_Group_51_RoHS_L_11.pdf
footprint 0603 - R (from Yageo)
pins: 1, 2

## 3 - 200 R
designator R?, comment 200Ω
RES SMD 200 OHM 5% 1/10W 0603; MFG PN: RC0603JR-07200RL; MFG: Yageo; Power: 0.1W; Temp Coeff: ±100ppm/°C; Op Temp: -55°C ~ 155°C; Current (max): 22.4 mA; Voltage (max): 4.47 V; Resistance: 200 Ohms; Digi-Key PN: 311-200GRCT-ND; Height: 0.55mm; Package: 0603; Composition: Thick Film; Tolerance: 5%; Series: RC; Mounting Type: Surface Mount; ComponentLink2Description: Datasheet; ComponentLink2URL: https://www.yageo.com/upload/media/product/productsearch/datasheet/rchip/PYu-RC_Group_51_RoHS_L_11.pdf
footprint 0603 - R (from Yageo)
pins: 1, 2

## 3 - 220 R
designator R?, comment 220Ω
RES SMD 220 OHM 5% 1/10W 0603; MFG PN: RC0603JR-07220RL; MFG: Yageo; Power: 0.1W; Temp Coeff: ±100ppm/°C; Op Temp: -55°C ~ 155°C; Current (max): 21.3 mA; Voltage (max): 4.69 V; Resistance: 220 Ohms; Digi-Key PN: 311-220GRCT-ND; Height: 0.55mm; Package: 0603; Composition: Thick Film; Tolerance: 5%; Series: RC; Mounting Type: Surface Mount; ComponentLink2Description: Datasheet; ComponentLink2URL: https://www.yageo.com/upload/media/product/productsearch/datasheet/rchip/PYu-RC_Group_51_RoHS_L_11.pdf
footprint 0603 - R (from Yageo)
pins: 1, 2

## 3 - 240 R
designator R?, comment 240Ω
RES SMD 240 OHM 5% 1/10W 0603; MFG PN: RC0603JR-07240RL; MFG: Yageo; Power: 0.1W; Temp Coeff: ±100ppm/°C; Op Temp: -55°C ~ 155°C; Current (max): 20.4 mA; Voltage (max): 4.90 V; Resistance: 240 Ohms; Digi-Key PN: 311-240GRCT-ND; Height: 0.55mm; Package: 0603; Composition: Thick Film; Tolerance: 5%; Series: RC; Mounting Type: Surface Mount; ComponentLink2Description: Datasheet; ComponentLink2URL: https://www.yageo.com/upload/media/product/productsearch/datasheet/rchip/PYu-RC_Group_51_RoHS_L_11.pdf
footprint 0603 - R (from Yageo)
pins: 1, 2

## 3 - 270 R
designator R?, comment 270Ω
RES SMD 270 OHM 5% 1/10W 0603; MFG PN: RC0603JR-07270RL; MFG: Yageo; Power: 0.1W; Temp Coeff: ±100ppm/°C; Op Temp: -55°C ~ 155°C; Current (max): 19.2 mA; Voltage (max): 5.20 V; Resistance: 270 Ohms; Digi-Key PN: 311-270GRCT-ND; Height: 0.55mm; Package: 0603; Composition: Thick Film; Tolerance: 5%; Series: RC; Mounting Type: Surface Mount; ComponentLink2Description: Datasheet; ComponentLink2URL: https://www.yageo.com/upload/media/product/productsearch/datasheet/rchip/PYu-RC_Group_51_RoHS_L_11.pdf
footprint 0603 - R (from Yageo)
pins: 1, 2

## 3 - 300 R
designator R?, comment 300Ω
RES SMD 300 OHM 5% 1/10W 0603; MFG PN: RC0603JR-07300RL; MFG: Yageo; Power: 0.1W; Temp Coeff: ±100ppm/°C; Op Temp: -55°C ~ 155°C; Current (max): 18.3 mA; Voltage (max): 5.48 V; Resistance: 300 Ohms; Digi-Key PN: 311-300GRCT-ND; Height: 0.55mm; Package: 0603; Composition: Thick Film; Tolerance: 5%; Series: RC; Mounting Type: Surface Mount; ComponentLink2Description: Datasheet; ComponentLink2URL: https://www.yageo.com/upload/media/product/productsearch/datasheet/rchip/PYu-RC_Group_51_RoHS_L_11.pdf
footprint 0603 - R (from Yageo)
pins: 1, 2

## 3 - 330 R
designator R?, comment 330Ω
RES SMD 330 OHM 5% 1/10W 0603; MFG PN: RC0603JR-07330RL; MFG: Yageo; Power: 0.1W; Temp Coeff: ±100ppm/°C; Op Temp: -55°C ~ 155°C; Current (max): 17.4 mA; Voltage (max): 5.74 V; Resistance: 330 Ohms; Digi-Key PN: 311-330GRCT-ND; Height: 0.55mm; Package: 0603; Composition: Thick Film; Tolerance: 5%; Series: RC; Mounting Type: Surface Mount; ComponentLink2Description: Datasheet; ComponentLink2URL: https://www.yageo.com/upload/media/product/productsearch/datasheet/rchip/PYu-RC_Group_51_RoHS_L_11.pdf
footprint 0603 - R (from Yageo)
pins: 1, 2

## 3 - 360 R
designator R?, comment 360Ω
RES SMD 360 OHM 5% 1/10W 0603; MFG PN: RC0603JR-07360RL; MFG: Yageo; Power: 0.1W; Temp Coeff: ±100ppm/°C; Op Temp: -55°C ~ 155°C; Current (max): 16.7 mA; Voltage (max): 6.00 V; Resistance: 360 Ohms; Digi-Key PN: 311-360GRCT-ND; Height: 0.55mm; Package: 0603; Composition: Thick Film; Tolerance: 5%; Series: RC; Mounting Type: Surface Mount; ComponentLink2Description: Datasheet; ComponentLink2URL: https://www.yageo.com/upload/media/product/productsearch/datasheet/rchip/PYu-RC_Group_51_RoHS_L_11.pdf
footprint 0603 - R (from Yageo)
pins: 1, 2

## 3 - 390 R
designator R?, comment 390Ω
RES SMD 390 OHM 5% 1/10W 0603; MFG PN: RC0603JR-07390RL; MFG: Yageo; Power: 0.1W; Temp Coeff: ±100ppm/°C; Op Temp: -55°C ~ 155°C; Current (max): 16.0 mA; Voltage (max): 6.24 V; Resistance: 390 Ohms; Digi-Key PN: 311-390GRCT-ND; Height: 0.55mm; Package: 0603; Composition: Thick Film; Tolerance: 5%; Series: RC; Mounting Type: Surface Mount; ComponentLink2Description: Datasheet; ComponentLink2URL: https://www.yageo.com/upload/media/product/productsearch/datasheet/rchip/PYu-RC_Group_51_RoHS_L_11.pdf
footprint 0603 - R (from Yageo)
pins: 1, 2

## 3 - 430 R
designator R?, comment 430Ω
RES SMD 430 OHM 5% 1/10W 0603; MFG PN: RC0603JR-07430RL; MFG: Yageo; Power: 0.1W; Temp Coeff: ±100ppm/°C; Op Temp: -55°C ~ 155°C; Current (max): 15.2 mA; Voltage (max): 6.56 V; Resistance: 430 Ohms; Digi-Key PN: 311-430GRCT-ND; Height: 0.55mm; Package: 0603; Composition: Thick Film; Tolerance: 5%; Series: RC; Mounting Type: Surface Mount; ComponentLink2Description: Datasheet; ComponentLink2URL: https://www.yageo.com/upload/media/product/productsearch/datasheet/rchip/PYu-RC_Group_51_RoHS_L_11.pdf
footprint 0603 - R (from Yageo)
pins: 1, 2

## 3 - 470 R
designator R?, comment 470Ω
RES SMD 470 OHM 5% 1/10W 0603; MFG PN: RC0603JR-07470RL; MFG: Yageo; Power: 0.1W; Temp Coeff: ±100ppm/°C; Op Temp: -55°C ~ 155°C; Current (max): 14.6 mA; Voltage (max): 6.86 V; Resistance: 470 Ohms; Digi-Key PN: 311-470GRCT-ND; Height: 0.55mm; Package: 0603; Composition: Thick Film; Tolerance: 5%; Series: RC; Mounting Type: Surface Mount; ComponentLink2Description: Datasheet; ComponentLink2URL: https://www.yageo.com/upload/media/product/productsearch/datasheet/rchip/PYu-RC_Group_51_RoHS_L_11.pdf
footprint 0603 - R (from Yageo)
pins: 1, 2

## 3 - 510 R
designator R?, comment 510Ω
RES SMD 510 OHM 5% 1/10W 0603; MFG PN: RC0603JR-07510RL; MFG: Yageo; Power: 0.1W; Temp Coeff: ±100ppm/°C; Op Temp: -55°C ~ 155°C; Current (max): 14.0 mA; Voltage (max): 7.14 V; Resistance: 510 Ohms; Digi-Key PN: 311-510GRCT-ND; Height: 0.55mm; Package: 0603; Composition: Thick Film; Tolerance: 5%; Series: RC; Mounting Type: Surface Mount; ComponentLink2Description: Datasheet; ComponentLink2URL: https://www.yageo.com/upload/media/product/productsearch/datasheet/rchip/PYu-RC_Group_51_RoHS_L_11.pdf
footprint 0603 - R (from Yageo)
pins: 1, 2

## 3 - 560 R
designator R?, comment 560Ω
RES SMD 560 OHM 5% 1/10W 0603; MFG PN: RC0603JR-07560RL; MFG: Yageo; Power: 0.1W; Temp Coeff: ±100ppm/°C; Op Temp: -55°C ~ 155°C; Current (max): 13.4 mA; Voltage (max): 7.48 V; Resistance: 560 Ohms; Digi-Key PN: 311-560GRCT-ND; Height: 0.55mm; Package: 0603; Composition: Thick Film; Tolerance: 5%; Series: RC; Mounting Type: Surface Mount; ComponentLink2Description: Datasheet; ComponentLink2URL: https://www.yageo.com/upload/media/product/productsearch/datasheet/rchip/PYu-RC_Group_51_RoHS_L_11.pdf
footprint 0603 - R (from Yageo)
pins: 1, 2

## 3 - 620 R
designator R?, comment 620Ω
RES SMD 620 OHM 5% 1/10W 0603; MFG PN: RC0603JR-07620RL; MFG: Yageo; Power: 0.1W; Temp Coeff: ±100ppm/°C; Op Temp: -55°C ~ 155°C; Current (max): 12.7 mA; Voltage (max): 7.87 V; Resistance: 620 Ohms; Digi-Key PN: 311-620GRCT-ND; Height: 0.55mm; Package: 0603; Composition: Thick Film; Tolerance: 5%; Series: RC; Mounting Type: Surface Mount; ComponentLink2Description: Datasheet; ComponentLink2URL: https://www.yageo.com/upload/media/product/productsearch/datasheet/rchip/PYu-RC_Group_51_RoHS_L_11.pdf
footprint 0603 - R (from Yageo)
pins: 1, 2

## 3 - 680 R
designator R?, comment 680Ω
RES SMD 680 OHM 5% 1/10W 0603; MFG PN: RC0603JR-07680RL; MFG: Yageo; Power: 0.1W; Temp Coeff: ±100ppm/°C; Op Temp: -55°C ~ 155°C; Current (max): 12.1 mA; Voltage (max): 8.25 V; Resistance: 680 Ohms; Digi-Key PN: 311-680GRCT-ND; Height: 0.55mm; Package: 0603; Composition: Thick Film; Tolerance: 5%; Series: RC; Mounting Type: Surface Mount; ComponentLink2Description: Datasheet; ComponentLink2URL: https://www.yageo.com/upload/media/product/productsearch/datasheet/rchip/PYu-RC_Group_51_RoHS_L_11.pdf
footprint 0603 - R (from Yageo)
pins: 1, 2

## 3 - 750 R
designator R?, comment 750Ω
RES SMD 750 OHM 5% 1/10W 0603; MFG PN: RC0603JR-07750RL; MFG: Yageo; Power: 0.1W; Temp Coeff: ±100ppm/°C; Op Temp: -55°C ~ 155°C; Current (max): 11.5 mA; Voltage (max): 8.66 V; Resistance: 750 Ohms; Digi-Key PN: 311-750GRCT-ND; Height: 0.55mm; Package: 0603; Composition: Thick Film; Tolerance: 5%; Series: RC; Mounting Type: Surface Mount; ComponentLink2Description: Datasheet; ComponentLink2URL: https://www.yageo.com/upload/media/product/productsearch/datasheet/rchip/PYu-RC_Group_51_RoHS_L_11.pdf
footprint 0603 - R (from Yageo)
pins: 1, 2

## 3 - 820 R
designator R?, comment 820Ω
RES SMD 820 OHM 5% 1/10W 0603; MFG PN: RC0603JR-07820RL; MFG: Yageo; Power: 0.1W; Temp Coeff: ±100ppm/°C; Op Temp: -55°C ~ 155°C; Current (max): 11.0 mA; Voltage (max): 9.06 V; Resistance: 820 Ohms; Digi-Key PN: 311-820GRCT-ND; Height: 0.55mm; Package: 0603; Composition: Thick Film; Tolerance: 5%; Series: RC; Mounting Type: Surface Mount; ComponentLink2Description: Datasheet; ComponentLink2URL: https://www.yageo.com/upload/media/product/productsearch/datasheet/rchip/PYu-RC_Group_51_RoHS_L_11.pdf
footprint 0603 - R (from Yageo)
pins: 1, 2

## 3 - 910 R
designator R?, comment 910Ω
RES SMD 910 OHM 5% 1/10W 0603; MFG PN: RC0603JR-07910RL; MFG: Yageo; Power: 0.1W; Temp Coeff: ±100ppm/°C; Op Temp: -55°C ~ 155°C; Current (max): 10.5 mA; Voltage (max): 9.54 V; Resistance: 910 Ohms; Digi-Key PN: 311-910GRCT-ND; Height: 0.55mm; Package: 0603; Composition: Thick Film; Tolerance: 5%; Series: RC; Mounting Type: Surface Mount; ComponentLink2Description: Datasheet; ComponentLink2URL: https://www.yageo.com/upload/media/product/productsearch/datasheet/rchip/PYu-RC_Group_51_RoHS_L_11.pdf
footprint 0603 - R (from Yageo)
pins: 1, 2

## 4 - 1.0 k
designator R?, comment 1.0kΩ
RES SMD 1K OHM 5% 1/10W 0603; MFG PN: RC0603JR-071KL; MFG: Yageo; Power: 0.1W; Temp Coeff: ±100ppm/°C; Op Temp: -55°C ~ 155°C; Current (max): 10.0 mA; Voltage (max): 10.0 V; Resistance: 1 kOhms; Digi-Key PN: 311-1.0KGRCT-ND; Height: 0.55mm; Package: 0603; Composition: Thick Film; Tolerance: 5%; Series: RC; Mounting Type: Surface Mount; ComponentLink2Description: Datasheet; ComponentLink2URL: https://www.yageo.com/upload/media/product/productsearch/datasheet/rchip/PYu-RC_Group_51_RoHS_L_11.pdf
footprint 0603 - R (from Yageo)
pins: 1, 2

## 4 - 1.1 k
designator R?, comment 1.1kΩ
RES SMD 1.1K OHM 5% 1/10W 0603; MFG PN: RC0603JR-071K1L; MFG: Yageo; Power: 0.1W; Temp Coeff: ±100ppm/°C; Op Temp: -55°C ~ 155°C; Current (max): 9.53 mA; Voltage (max): 10.5 V; Resistance: 1.1 kOhms; Digi-Key PN: 311-1.1KGRCT-ND; Height: 0.55mm; Package: 0603; Composition: Thick Film; Tolerance: 5%; Series: RC; Mounting Type: Surface Mount; ComponentLink2Description: Datasheet; ComponentLink2URL: https://www.yageo.com/upload/media/product/productsearch/datasheet/rchip/PYu-RC_Group_51_RoHS_L_11.pdf
footprint 0603 - R (from Yageo)
pins: 1, 2

## 4 - 1.2 k
designator R?, comment 1.2kΩ
RES SMD 1.2K OHM 5% 1/10W 0603; MFG PN: RC0603JR-071K2L; MFG: Yageo; Power: 0.1W; Temp Coeff: ±100ppm/°C; Op Temp: -55°C ~ 155°C; Current (max): 9.13 mA; Voltage (max): 11.0 V; Resistance: 1.2 kOhms; Digi-Key PN: 311-1.2KGRCT-ND; Height: 0.55mm; Package: 0603; Composition: Thick Film; Tolerance: 5%; Series: RC; Mounting Type: Surface Mount; ComponentLink2Description: Datasheet; ComponentLink2URL: https://www.yageo.com/upload/media/product/productsearch/datasheet/rchip/PYu-RC_Group_51_RoHS_L_11.pdf
footprint 0603 - R (from Yageo)
pins: 1, 2

## 4 - 1.3 k
designator R?, comment 1.3kΩ
RES SMD 1.3K OHM 5% 1/10W 0603; MFG PN: RC0603JR-071K3L; MFG: Yageo; Power: 0.1W; Temp Coeff: ±100ppm/°C; Op Temp: -55°C ~ 155°C; Current (max): 8.77 mA; Voltage (max): 11.4 V; Resistance: 1.3 kOhms; Digi-Key PN: 311-1.3KGRCT-ND; Height: 0.55mm; Package: 0603; Composition: Thick Film; Tolerance: 5%; Series: RC; Mounting Type: Surface Mount; ComponentLink2Description: Datasheet; ComponentLink2URL: https://www.yageo.com/upload/media/product/productsearch/datasheet/rchip/PYu-RC_Group_51_RoHS_L_11.pdf
footprint 0603 - R (from Yageo)
pins: 1, 2

## 4 - 1.5 k
designator R?, comment 1.5kΩ
RES SMD 1.5K OHM 5% 1/10W 0603; MFG PN: RC0603JR-071K5L; MFG: Yageo; Power: 0.1W; Temp Coeff: ±100ppm/°C; Op Temp: -55°C ~ 155°C; Current (max): 8.16 mA; Voltage (max): 12.2 V; Resistance: 1.5 kOhms; Digi-Key PN: 311-1.5KGRCT-ND; Height: 0.55mm; Package: 0603; Composition: Thick Film; Tolerance: 5%; Series: RC; Mounting Type: Surface Mount; ComponentLink2Description: Datasheet; ComponentLink2URL: https://www.yageo.com/upload/media/product/productsearch/datasheet/rchip/PYu-RC_Group_51_RoHS_L_11.pdf
footprint 0603 - R (from Yageo)
pins: 1, 2

## 4 - 1.6 k
designator R?, comment 1.6kΩ
RES SMD 1.6K OHM 5% 1/10W 0603; MFG PN: RC0603JR-071K6L; MFG: Yageo; Power: 0.1W; Temp Coeff: ±100ppm/°C; Op Temp: -55°C ~ 155°C; Current (max): 7.91 mA; Voltage (max): 12.6 V; Resistance: 1.6 kOhms; Digi-Key PN: 311-1.6KGRCT-ND; Height: 0.55mm; Package: 0603; Composition: Thick Film; Tolerance: 5%; Series: RC; Mounting Type: Surface Mount; ComponentLink2Description: Datasheet; ComponentLink2URL: https://www.yageo.com/upload/media/product/productsearch/datasheet/rchip/PYu-RC_Group_51_RoHS_L_11.pdf
footprint 0603 - R (from Yageo)
pins: 1, 2

## 4 - 1.8 k
designator R?, comment 1.8kΩ
RES SMD 1.8K OHM 5% 1/10W 0603; MFG PN: RC0603JR-071K8L; MFG: Yageo; Power: 0.1W; Temp Coeff: ±100ppm/°C; Op Temp: -55°C ~ 155°C; Current (max): 7.45 mA; Voltage (max): 13.4 V; Resistance: 1.8 kOhms; Digi-Key PN: 311-1.8KGRCT-ND; Height: 0.55mm; Package: 0603; Composition: Thick Film; Tolerance: 5%; Series: RC; Mounting Type: Surface Mount; ComponentLink2Description: Datasheet; ComponentLink2URL: https://www.yageo.com/upload/media/product/productsearch/datasheet/rchip/PYu-RC_Group_51_RoHS_L_11.pdf
footprint 0603 - R (from Yageo)
pins: 1, 2

## 4 - 2.0 k
designator R?, comment 2.0kΩ
RES SMD 2K OHM 5% 1/10W 0603; MFG PN: RC0603JR-072KL; MFG: Yageo; Power: 0.1W; Temp Coeff: ±100ppm/°C; Op Temp: -55°C ~ 155°C; Current (max): 7.07 mA; Voltage (max): 14.1 V; Resistance: 2 kOhms; Digi-Key PN: 311-2.0KGRCT-ND; Height: 0.55mm; Package: 0603; Composition: Thick Film; Tolerance: 5%; Series: RC; Mounting Type: Surface Mount; ComponentLink2Description: Datasheet; ComponentLink2URL: https://www.yageo.com/upload/media/product/productsearch/datasheet/rchip/PYu-RC_Group_51_RoHS_L_11.pdf
footprint 0603 - R (from Yageo)
pins: 1, 2

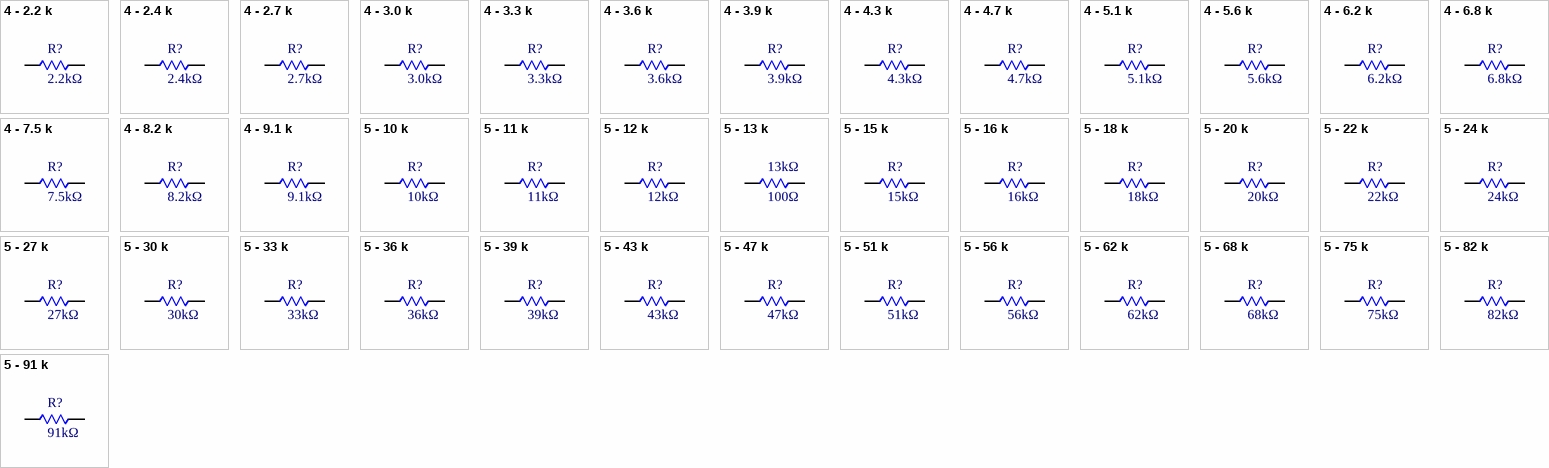
[diagram p2: symbols 4 - 2.2 k to 5 - 91 k]

## 4 - 2.2 k
designator R?, comment 2.2kΩ
RES SMD 2.2K OHM 5% 1/10W 0603; MFG PN: RC0603JR-072K2L; MFG: Yageo; Power: 0.1W; Temp Coeff: ±100ppm/°C; Op Temp: -55°C ~ 155°C; Current (max): 6.74 mA; Voltage (max): 14.8 V; Resistance: 2.2 kOhms; Digi-Key PN: 311-2.2KGRCT-ND; Height: 0.55mm; Package: 0603; Composition: Thick Film; Tolerance: 5%; Series: RC; Mounting Type: Surface Mount; ComponentLink2Description: Datasheet; ComponentLink2URL: https://www.yageo.com/upload/media/product/productsearch/datasheet/rchip/PYu-RC_Group_51_RoHS_L_11.pdf
footprint 0603 - R (from Yageo)
pins: 1, 2

## 4 - 2.4 k
designator R?, comment 2.4kΩ
RES SMD 2.4K OHM 5% 1/10W 0603; MFG PN: RC0603JR-072K4L; MFG: Yageo; Power: 0.1W; Temp Coeff: ±100ppm/°C; Op Temp: -55°C ~ 155°C; Current (max): 6.45 mA; Voltage (max): 15.5 V; Resistance: 2.4 kOhms; Digi-Key PN: 311-2.4KGRCT-ND; Height: 0.55mm; Package: 0603; Composition: Thick Film; Tolerance: 5%; Series: RC; Mounting Type: Surface Mount; ComponentLink2Description: Datasheet; ComponentLink2URL: https://www.yageo.com/upload/media/product/productsearch/datasheet/rchip/PYu-RC_Group_51_RoHS_L_11.pdf
footprint 0603 - R (from Yageo)
pins: 1, 2

## 4 - 2.7 k
designator R?, comment 2.7kΩ
RES SMD 2.7K OHM 5% 1/10W 0603; MFG PN: RC0603JR-072K7L; MFG: Yageo; Power: 0.1W; Temp Coeff: ±100ppm/°C; Op Temp: -55°C ~ 155°C; Current (max): 6.09 mA; Voltage (max): 16.4 V; Resistance: 2.7 kOhms; Digi-Key PN: 311-2.7KGRCT-ND; Height: 0.55mm; Package: 0603; Composition: Thick Film; Tolerance: 5%; Series: RC; Mounting Type: Surface Mount; ComponentLink2Description: Datasheet; ComponentLink2URL: https://www.yageo.com/upload/media/product/productsearch/datasheet/rchip/PYu-RC_Group_51_RoHS_L_11.pdf
footprint 0603 - R (from Yageo)
pins: 1, 2

## 4 - 3.0 k
designator R?, comment 3.0kΩ
RES SMD 3K OHM 5% 1/10W 0603; MFG PN: RC0603JR-073KL; MFG: Yageo; Power: 0.1W; Temp Coeff: ±100ppm/°C; Op Temp: -55°C ~ 155°C; Current (max): 5.77 mA; Voltage (max): 17.3 V; Resistance: 3 kOhms; Digi-Key PN: 311-3.0KGRCT-ND; Height: 0.55mm; Package: 0603; Composition: Thick Film; Tolerance: 5%; Series: RC; Mounting Type: Surface Mount; ComponentLink2Description: Datasheet; ComponentLink2URL: https://www.yageo.com/upload/media/product/productsearch/datasheet/rchip/PYu-RC_Group_51_RoHS_L_11.pdf
footprint 0603 - R (from Yageo)
pins: 1, 2

## 4 - 3.3 k
designator R?, comment 3.3kΩ
RES SMD 3.3K OHM 5% 1/10W 0603; MFG PN: RC0603JR-073K3L; MFG: Yageo; Power: 0.1W; Temp Coeff: ±100ppm/°C; Op Temp: -55°C ~ 155°C; Current (max): 5.50 mA; Voltage (max): 18.2 V; Resistance: 3.3 kOhms; Digi-Key PN: 311-3.3KGRCT-ND; Height: 0.55mm; Package: 0603; Composition: Thick Film; Tolerance: 5%; Series: RC; Mounting Type: Surface Mount; ComponentLink2Description: Datasheet; ComponentLink2URL: https://www.yageo.com/upload/media/product/productsearch/datasheet/rchip/PYu-RC_Group_51_RoHS_L_11.pdf
footprint 0603 - R (from Yageo)
pins: 1, 2